# Altium schematic symbol library SparkFun-Resistors.SCHLIB: 220 symbols (part 3 of 3)
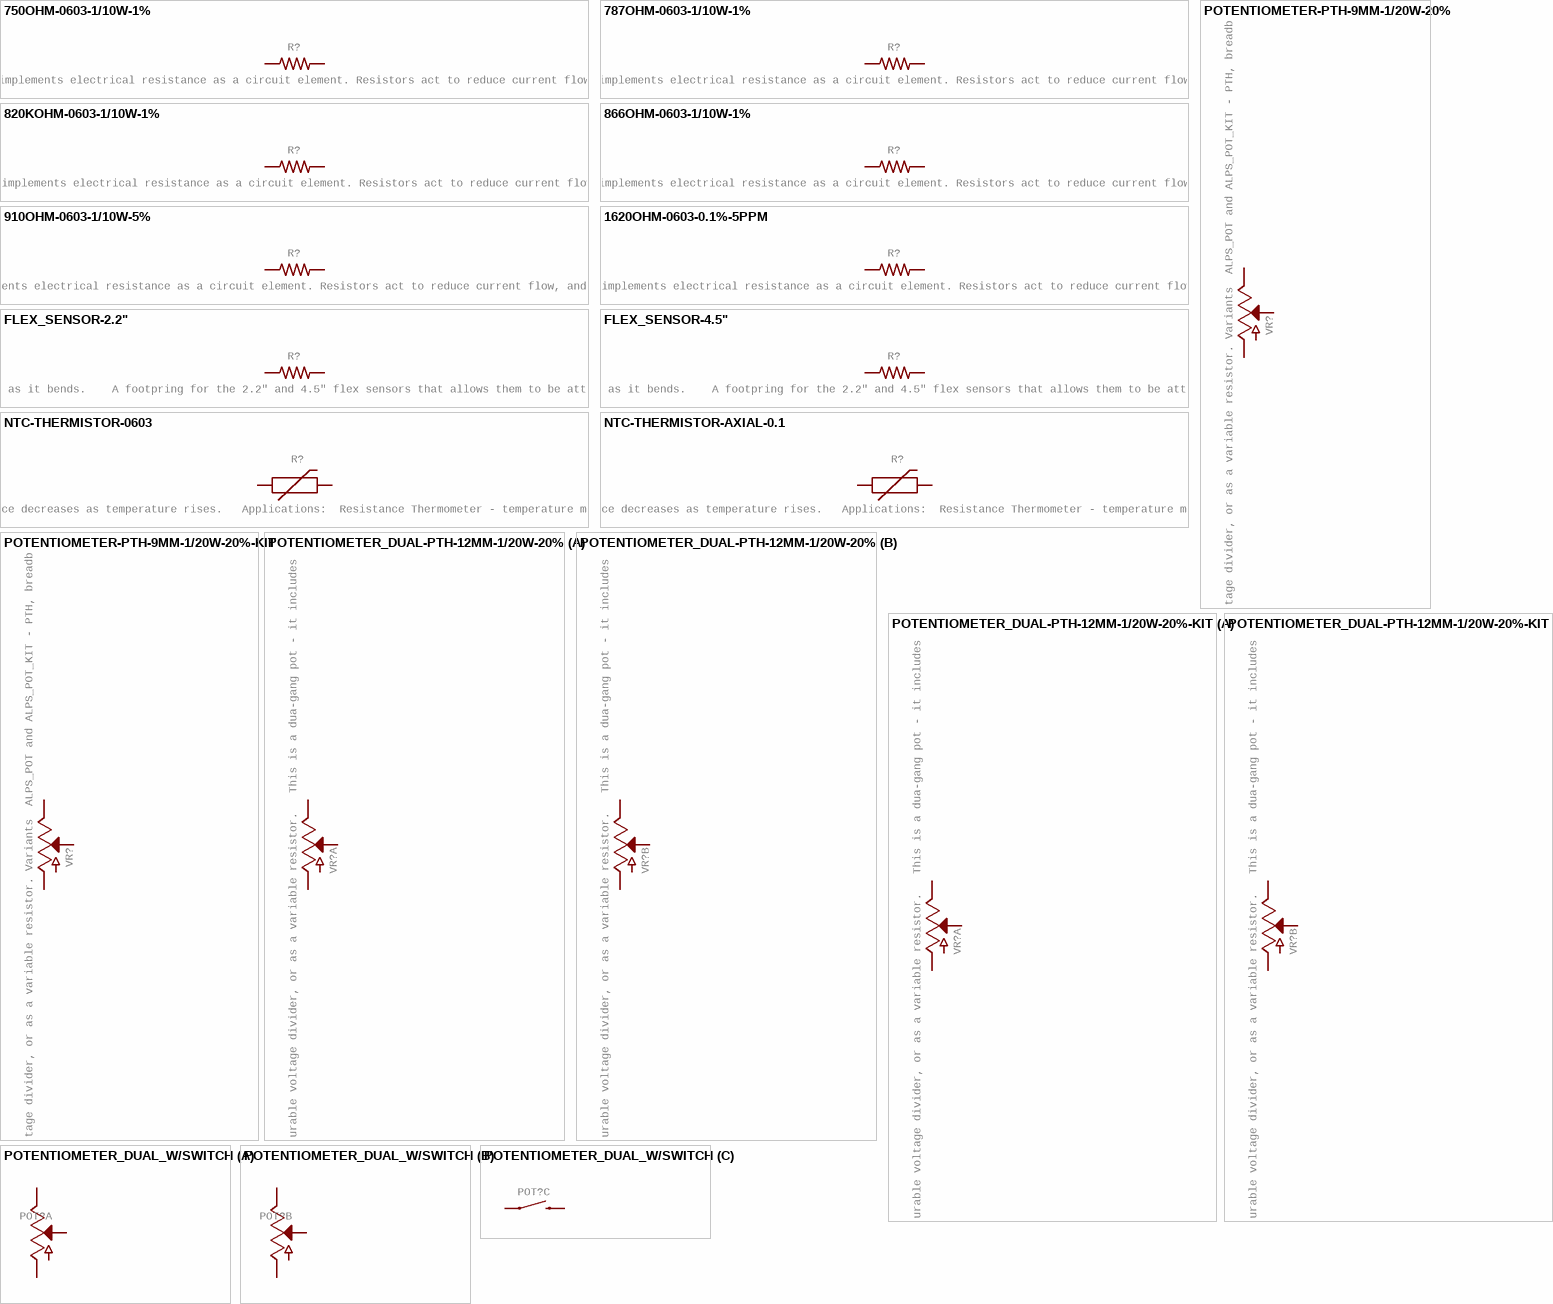
[diagram p9: symbols 750OHM-0603-1/10W-1% to POTENTIOMETER_DUAL_W/SWITCH]

## POTENTIOMETER_DUAL_W/SWITCH
designator POT?
GateName_1: G2; SymbolName_1: POTENTIOMETER; GateName_2: G1; GateName_3: G3; SymbolName_3: SWITCH-MOMENTARY; DeviceSetName: POTENTIOMETER_DUAL_W/SWITCH; PROD_ID: RES-13814; SymbolName_2: POTENTIOMETER; LibraryName: SparkFun-Resistors; Package: POT-DUAL-SWITCH-PTH
footprint POT-DUAL-SWITCH-PTH
part A pins: B1 A, B2 S, B3 E
part B pins: A1 A, A2 S, A3 E
part C pins: SW1 1, SW2 2

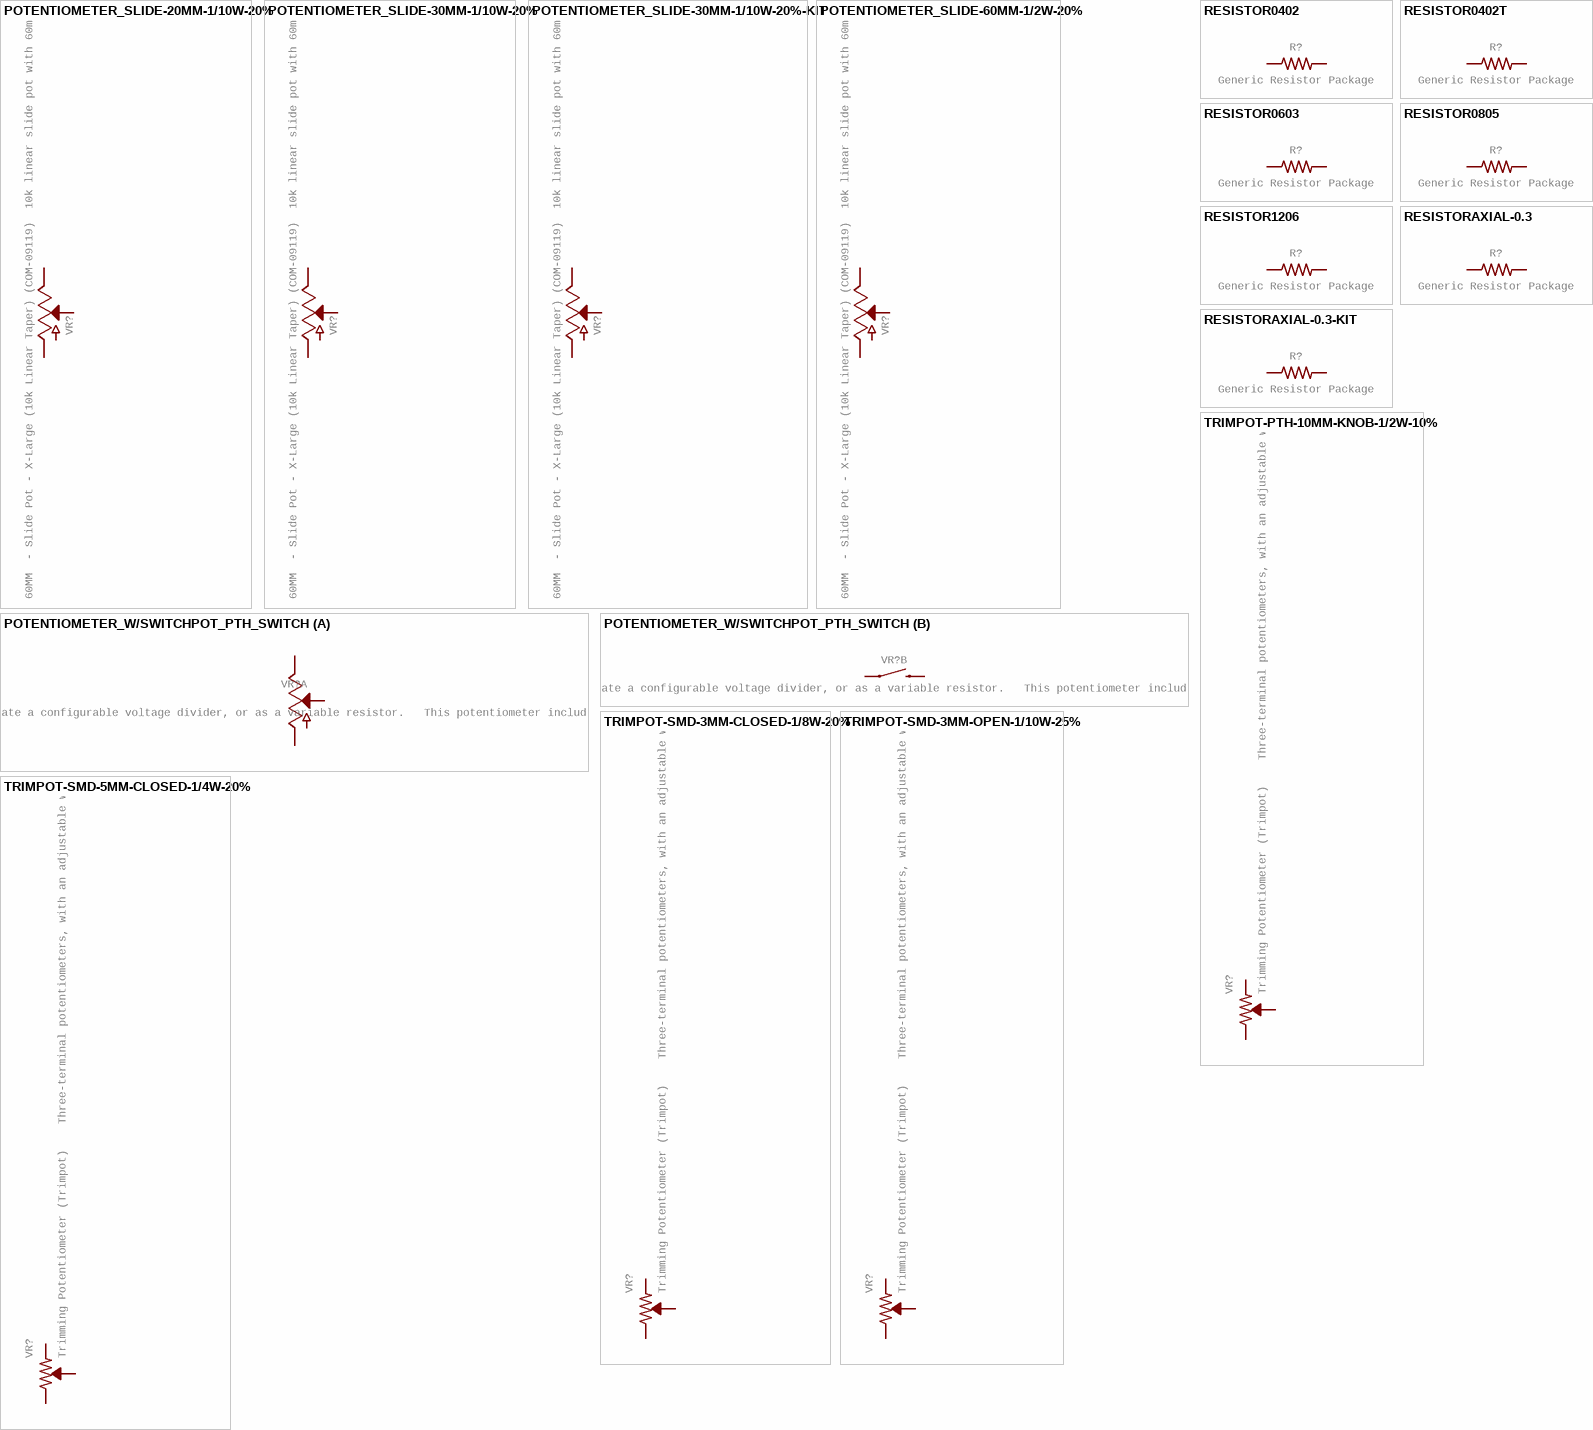
[diagram p7: symbols POTENTIOMETER_SLIDE-20MM-1/10W-20% to TRIMPOT-SMD-5MM-CLOSED-1/4W-20%]

## POTENTIOMETER_SLIDE-20MM-1/10W-20%
designator VR?, comment Slide Potentiometer    Slide-type potentiometers - pots that are adjusted by sliding a wiper up or down. Commonly found en-masse on sound boards. Variants  60MM  - Slide Pot - X-Large (10k Linear Taper) (COM-09119)  10k linear slide pot with 60mm travel.  Datasheet     30MM, 30MM-KIT - Slide Pot - Medium (10k Linear Taper) (COM-11621)  10k linear slide pot with 30mm travel.  Datasheet (C3031N-1A2-B10K-GP)  "KIT" variant, intended for soldering kits, has tStop removed from pads so the component can only be stuffed on one side of the board.     20MM - Slide Pot - Small (10k Linear Taper) (COM-11620)  10k linear slide pot with 20mm travel.  Datasheet (C2031N-1A2-B10K-GP)
GateName_1: G$1; DeviceName: -20MM-1/10W-20%; DeviceSetName: POTENTIOMETER_SLIDE; PROD_ID: RES-11924; SymbolName_1: POTENTIOMETER; LibraryName: SparkFun-Resistors; Package: SLIDER-SMALL; SF_SKU: COM-11620
footprint SLIDER-SMALL
pins: BOTTOM A, TOP E, WIPER S

## POTENTIOMETER_SLIDE-30MM-1/10W-20%
designator VR?, comment Slide Potentiometer    Slide-type potentiometers - pots that are adjusted by sliding a wiper up or down. Commonly found en-masse on sound boards. Variants  60MM  - Slide Pot - X-Large (10k Linear Taper) (COM-09119)  10k linear slide pot with 60mm travel.  Datasheet     30MM, 30MM-KIT - Slide Pot - Medium (10k Linear Taper) (COM-11621)  10k linear slide pot with 30mm travel.  Datasheet (C3031N-1A2-B10K-GP)  "KIT" variant, intended for soldering kits, has tStop removed from pads so the component can only be stuffed on one side of the board.     20MM - Slide Pot - Small (10k Linear Taper) (COM-11620)  10k linear slide pot with 20mm travel.  Datasheet (C2031N-1A2-B10K-GP)
GateName_1: G$1; DeviceName: -30MM-1/10W-20%; DeviceSetName: POTENTIOMETER_SLIDE; PROD_ID: RES-11931; SymbolName_1: POTENTIOMETER; LibraryName: SparkFun-Resistors; Package: SLIDER-MEDIUM; SF_SKU: COM-11621
footprint SLIDER-MEDIUM
pins: BOTTOM A, TOP E, WIPER S

## POTENTIOMETER_SLIDE-30MM-1/10W-20%-KIT
designator VR?, comment Slide Potentiometer    Slide-type potentiometers - pots that are adjusted by sliding a wiper up or down. Commonly found en-masse on sound boards. Variants  60MM  - Slide Pot - X-Large (10k Linear Taper) (COM-09119)  10k linear slide pot with 60mm travel.  Datasheet     30MM, 30MM-KIT - Slide Pot - Medium (10k Linear Taper) (COM-11621)  10k linear slide pot with 30mm travel.  Datasheet (C3031N-1A2-B10K-GP)  "KIT" variant, intended for soldering kits, has tStop removed from pads so the component can only be stuffed on one side of the board.     20MM - Slide Pot - Small (10k Linear Taper) (COM-11620)  10k linear slide pot with 20mm travel.  Datasheet (C2031N-1A2-B10K-GP)
GateName_1: G$1; DeviceName: -30MM-1/10W-20%-KIT; DeviceSetName: POTENTIOMETER_SLIDE; PROD_ID: RES-11931; SymbolName_1: POTENTIOMETER; LibraryName: SparkFun-Resistors; Package: SLIDER-MEDIUM-KIT; SF_SKU: COM-11621
footprint SLIDER-MEDIUM-KIT
pins: BOTTOM A, TOP E, WIPER S

## POTENTIOMETER_SLIDE-60MM-1/2W-20%
designator VR?, comment Slide Potentiometer    Slide-type potentiometers - pots that are adjusted by sliding a wiper up or down. Commonly found en-masse on sound boards. Variants  60MM  - Slide Pot - X-Large (10k Linear Taper) (COM-09119)  10k linear slide pot with 60mm travel.  Datasheet     30MM, 30MM-KIT - Slide Pot - Medium (10k Linear Taper) (COM-11621)  10k linear slide pot with 30mm travel.  Datasheet (C3031N-1A2-B10K-GP)  "KIT" variant, intended for soldering kits, has tStop removed from pads so the component can only be stuffed on one side of the board.     20MM - Slide Pot - Small (10k Linear Taper) (COM-11620)  10k linear slide pot with 20mm travel.  Datasheet (C2031N-1A2-B10K-GP)
GateName_1: G$1; DeviceName: -60MM-1/2W-20%; DeviceSetName: POTENTIOMETER_SLIDE; PROD_ID: RES-09484; SymbolName_1: POTENTIOMETER; LibraryName: SparkFun-Resistors; Package: SLIDER-XLARGE; SF_SKU: COM-09119
footprint SLIDER-XLARGE
pins: 1 E, 2A S, 3 A

## POTENTIOMETER_W/SWITCHPOT_PTH_SWITCH
designator VR?, comment Potentiometer (Pot) with Switch    Three-terminal potentiometers, with an adjustable wiper and two adjustable resistors. A pot can be used to create a configurable voltage divider, or as a variable resistor.   This potentiometer includes a "select" switch - actuated by pushing down on the wiper. Variants  POT-SWITCH-PTH - 16mm PTH Pot w/ Switch  Used on SparkFun FabFM Radio Kit
GateName_1: G$1; GateName_2: G$2; SymbolName_2: SWITCH-MOMENTARY; DeviceName: POT_PTH_SWITCH; DeviceSetName: POTENTIOMETER_W/SWITCH; PROD_ID: RES-11300; SymbolName_1: POTENTIOMETER; LibraryName: SparkFun-Resistors; Package: POT-SWITCH-PTH
footprint POT-SWITCH-PTH
part A pins: 1 A, 2 S, 3 E
part B pins: S1 1, S2 2

## RESISTOR0402
designator R?, comment Generic Resistor Package
GateName_1: G$1; DeviceName: 0402; SymbolName_1: RESISTOR; LibraryName: SparkFun-Resistors; DeviceSetName: RESISTOR; Package: 0402
footprint 0402
pins: 1, 2

## RESISTOR0402T
designator R?, comment Generic Resistor Package
GateName_1: G$1; DeviceName: 0402T; SymbolName_1: RESISTOR; LibraryName: SparkFun-Resistors; DeviceSetName: RESISTOR; Package: 0402-TIGHT
footprint 0402-TIGHT
pins: 1, 2

## RESISTOR0603
designator R?, comment Generic Resistor Package
GateName_1: G$1; DeviceName: 0603; SymbolName_1: RESISTOR; LibraryName: SparkFun-Resistors; DeviceSetName: RESISTOR; Package: 0603
footprint 0603
pins: 1, 2

## RESISTOR0805
designator R?, comment Generic Resistor Package
GateName_1: G$1; DeviceName: 0805; SymbolName_1: RESISTOR; LibraryName: SparkFun-Resistors; DeviceSetName: RESISTOR; Package: 0805
footprint 0805
pins: 1, 2

## RESISTOR1206
designator R?, comment Generic Resistor Package
GateName_1: G$1; DeviceName: 1206; SymbolName_1: RESISTOR; LibraryName: SparkFun-Resistors; DeviceSetName: RESISTOR; Package: 1206
footprint 1206
pins: 1, 2

## RESISTORAXIAL-0.3
designator R?, comment Generic Resistor Package
GateName_1: G$1; DeviceName: AXIAL-0.3; SymbolName_1: RESISTOR; LibraryName: SparkFun-Resistors; DeviceSetName: RESISTOR; Package: AXIAL-0.3
footprint AXIAL-0.3
pins: P$1 1, P$2 2

## RESISTORAXIAL-0.3-KIT
designator R?, comment Generic Resistor Package
GateName_1: G$1; DeviceName: AXIAL-0.3-KIT; SymbolName_1: RESISTOR; LibraryName: SparkFun-Resistors; DeviceSetName: RESISTOR; Package: AXIAL-0.3-KIT
footprint AXIAL-0.3-KIT
pins: P$1 1, P$2 2

## TRIMPOT-PTH-10MM-KNOB-1/2W-10%
designator VR?, comment Trimming Potentiometer (Trimpot)    Three-terminal potentiometers, with an adjustable wiper and two adjustable resistors. A pot can be used to create a configurable voltage divider, or as a variable resistor.   "Trimpots" are a subset of potentiometers, usually intended for "set-and-forget" applications. They're often more delicate than standard potentiometers - rated for fewer turns. Variants  PTH-KNOB - PTH Trimpot w/ finger-adjustable knob  Trimpot 10K with Knob (COM-09806)  Datasheet    SMD-3MM-CLOSED-FRAME - SMD 3mm Square Closed-Frame Trimpot  Used on e.g. EasyDriver - Stepper Motor Driver  Datasheet (22AR10KTR)     SMD-5MM - SMD 5mm Square Closed-Frame Trimpot  Used on e.g. IOIO-OTG - V2.2  Datasheet (TS53YL502MR10)     SMD-3MM-1/10W-25% - 3mm Square Open-Frame Trimpot  Used on e.g. SparkFun Shapeoko  Datasheet (TC33X-2-103E)
GateName_1: R?; DeviceName: -PTH-10MM-KNOB-1/2W-10%; PROD_ID: RES-09730; SymbolName_1: TRIMPOT; LibraryName: SparkFun-Resistors; DeviceSetName: TRIMPOT; Package: TRIMPOT-PTH-3386U; SF_SKU: COM-09806
footprint TRIMPOT-PTH-3386U
pins: 1 CCW, 2 WIPER, 3 CW

## TRIMPOT-SMD-3MM-CLOSED-1/8W-20%
designator VR?, comment Trimming Potentiometer (Trimpot)    Three-terminal potentiometers, with an adjustable wiper and two adjustable resistors. A pot can be used to create a configurable voltage divider, or as a variable resistor.   "Trimpots" are a subset of potentiometers, usually intended for "set-and-forget" applications. They're often more delicate than standard potentiometers - rated for fewer turns. Variants  PTH-KNOB - PTH Trimpot w/ finger-adjustable knob  Trimpot 10K with Knob (COM-09806)  Datasheet    SMD-3MM-CLOSED-FRAME - SMD 3mm Square Closed-Frame Trimpot  Used on e.g. EasyDriver - Stepper Motor Driver  Datasheet (22AR10KTR)     SMD-5MM - SMD 5mm Square Closed-Frame Trimpot  Used on e.g. IOIO-OTG - V2.2  Datasheet (TS53YL502MR10)     SMD-3MM-1/10W-25% - 3mm Square Open-Frame Trimpot  Used on e.g. SparkFun Shapeoko  Datasheet (TC33X-2-103E)
GateName_1: R?; DeviceName: -SMD-3MM-CLOSED-1/8W-20%; PROD_ID: RES-09285; SymbolName_1: TRIMPOT; LibraryName: SparkFun-Resistors; DeviceSetName: TRIMPOT; Package: TRIMPOT-SMD-3MM-CLOSED
footprint TRIMPOT-SMD-3MM-CLOSED
pins: 1 CCW, 2 WIPER, 3 CW

## TRIMPOT-SMD-3MM-OPEN-1/10W-25%
designator VR?, comment Trimming Potentiometer (Trimpot)    Three-terminal potentiometers, with an adjustable wiper and two adjustable resistors. A pot can be used to create a configurable voltage divider, or as a variable resistor.   "Trimpots" are a subset of potentiometers, usually intended for "set-and-forget" applications. They're often more delicate than standard potentiometers - rated for fewer turns. Variants  PTH-KNOB - PTH Trimpot w/ finger-adjustable knob  Trimpot 10K with Knob (COM-09806)  Datasheet    SMD-3MM-CLOSED-FRAME - SMD 3mm Square Closed-Frame Trimpot  Used on e.g. EasyDriver - Stepper Motor Driver  Datasheet (22AR10KTR)     SMD-5MM - SMD 5mm Square Closed-Frame Trimpot  Used on e.g. IOIO-OTG - V2.2  Datasheet (TS53YL502MR10)     SMD-3MM-1/10W-25% - 3mm Square Open-Frame Trimpot  Used on e.g. SparkFun Shapeoko  Datasheet (TC33X-2-103E)
GateName_1: R?; DeviceName: -SMD-3MM-OPEN-1/10W-25%; PROD_ID: RES-12428, RES-08048; SymbolName_1: TRIMPOT; LibraryName: SparkFun-Resistors; DeviceSetName: TRIMPOT; Package: TRIMPOT-SMD-TC33X
footprint TRIMPOT-SMD-TC33X
pins: 1 CW, 2 WIPER, 3 CCW

## TRIMPOT-SMD-5MM-CLOSED-1/4W-20%
designator VR?, comment Trimming Potentiometer (Trimpot)    Three-terminal potentiometers, with an adjustable wiper and two adjustable resistors. A pot can be used to create a configurable voltage divider, or as a variable resistor.   "Trimpots" are a subset of potentiometers, usually intended for "set-and-forget" applications. They're often more delicate than standard potentiometers - rated for fewer turns. Variants  PTH-KNOB - PTH Trimpot w/ finger-adjustable knob  Trimpot 10K with Knob (COM-09806)  Datasheet    SMD-3MM-CLOSED-FRAME - SMD 3mm Square Closed-Frame Trimpot  Used on e.g. EasyDriver - Stepper Motor Driver  Datasheet (22AR10KTR)     SMD-5MM - SMD 5mm Square Closed-Frame Trimpot  Used on e.g. IOIO-OTG - V2.2  Datasheet (TS53YL502MR10)     SMD-3MM-1/10W-25% - 3mm Square Open-Frame Trimpot  Used on e.g. SparkFun Shapeoko  Datasheet (TC33X-2-103E)
GateName_1: R?; DeviceName: -SMD-5MM-CLOSED-1/4W-20%; PROD_ID: RES-11156; SymbolName_1: TRIMPOT; LibraryName: SparkFun-Resistors; DeviceSetName: TRIMPOT; Package: TRIMPOT-SMD-5MM
footprint TRIMPOT-SMD-5MM
pins: A CCW, B WIPER, C CW